# Altium schematic symbol library DI_PHOTO.SchLib: 1 symbol
Pins are listed as number, name and electrical type; pins without a type are passive.

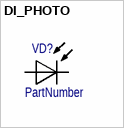
[diagram p0: symbol DI_PHOTO]

## DI_PHOTO
designator VD?  (value not drawn)
Фотодиод (буквенные дезигнаторы A/C); PartNumber: PartNumber
pins: A, C